# EAGLE library part LT5400 (library lt5400)
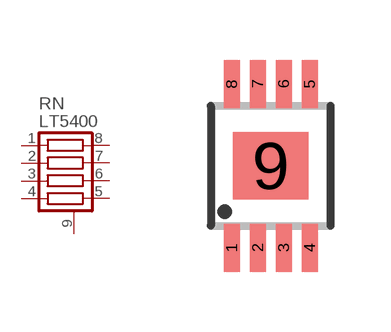
[diagram p0: symbol with the pads of MS8E; footprint MS8E]

Designator prefix RN

## LT5400  [MS8E]
1  1  pas
2  2  pas
3  3  pas
4  4  pas
5  5  pas
6  6  pas
7  7  pas
8  8  pas
9  EP  pwr

## Footprint MS8E (pad centres in mm)
MSOP8
smd 0.4 x 1.2: 1 -0.975,-2.05; 2 -0.325,-2.05; 3 0.325,-2.05; 4 0.975,-2.05; 5 0.975,2.05; 6 0.325,2.05; 7 -0.325,2.05; 8 -0.975,2.05
smd 1.88 x 1.68: 9 0,0